# EAGLE library part ESP32 (library ESP-Board)
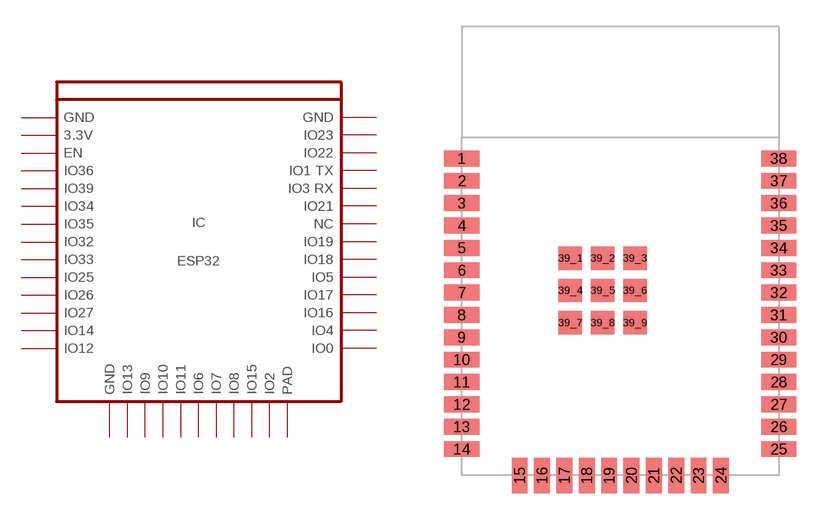
[diagram p0: symbol with the pads of ESP32; footprint ESP32]

Designator prefix IC

## ESP32  [ESP32]
1  GND0
2  3.3V
3  EN
4  IO36
5  IO39
6  IO34
7  IO35
8  IO32
9  IO33
10  IO25
11  IO26
12  IO27
13  IO14
14  IO12
15  GND1
16  IO13
17  IO9
18  IO10
19  IO11
20  IO6
21  IO7
22  IO8
23  IO15
24  IO2
25  IO0
26  IO4
27  IO16
28  IO17
29  IO5
30  IO18
31  IO19
32  NC
33  IO21
34  IO3
35  IO1
36  IO22
37  IO23
38  GND2
39_1  GND3
39_2  GND3
39_3  GND3
39_4  GND3
39_5  GND3
39_6  GND3
39_7  GND3
39_8  GND3
39_9  GND3

## Footprint ESP32 (pad centres in mm)
smd 2 x 0.9: 1 -9,7.8; 2 -9,6.53; 3 -9,5.26; 4 -9,3.99; 5 -9,2.72; 6 -9,1.45; 7 -9,0.18; 8 -9,-1.09; 9 -9,-2.36; 10 -9,-3.63; 11 -9,-4.9; 12 -9,-6.17; 13 -9,-7.44; 14 -9,-8.71; 25 9,-8.71; 26 9,-7.44; 27 9,-6.17; 28 9,-4.9; 29 9,-3.63; 30 9,-2.36; 31 9,-1.09; 32 9,0.18; 33 9,1.45; 34 9,2.72; 35 9,3.99; 36 9,5.26; 37 9,6.53; 38 9,7.8
smd 0.9 x 2: 15 -5.715,-10.21; 16 -4.445,-10.21; 17 -3.175,-10.21; 18 -1.905,-10.21; 19 -0.635,-10.21; 20 0.635,-10.21; 21 1.905,-10.21; 22 3.175,-10.21; 23 4.445,-10.21; 24 5.715,-10.21
smd 1.33 x 1.33: 39_1 -2.835,2.135; 39_2 -1,2.135; 39_3 0.835,2.135; 39_4 -2.835,0.3; 39_5 -1,0.3; 39_6 0.835,0.3; 39_7 -2.835,-1.535; 39_8 -1,-1.535; 39_9 0.835,-1.535